# Altium footprint library mw.PcbLib: 252 footprints (part 16 of 16)
Each footprint in its own frame and in the unit in brackets; x right, y up, seen from the top. Pads: shape width x height; smd on the part's side, far side on the other; paste and mask are expansions set on the pad; w line width, h text height; cw(c..) or ccw(c..) is an arc to the next point about the centre after c.
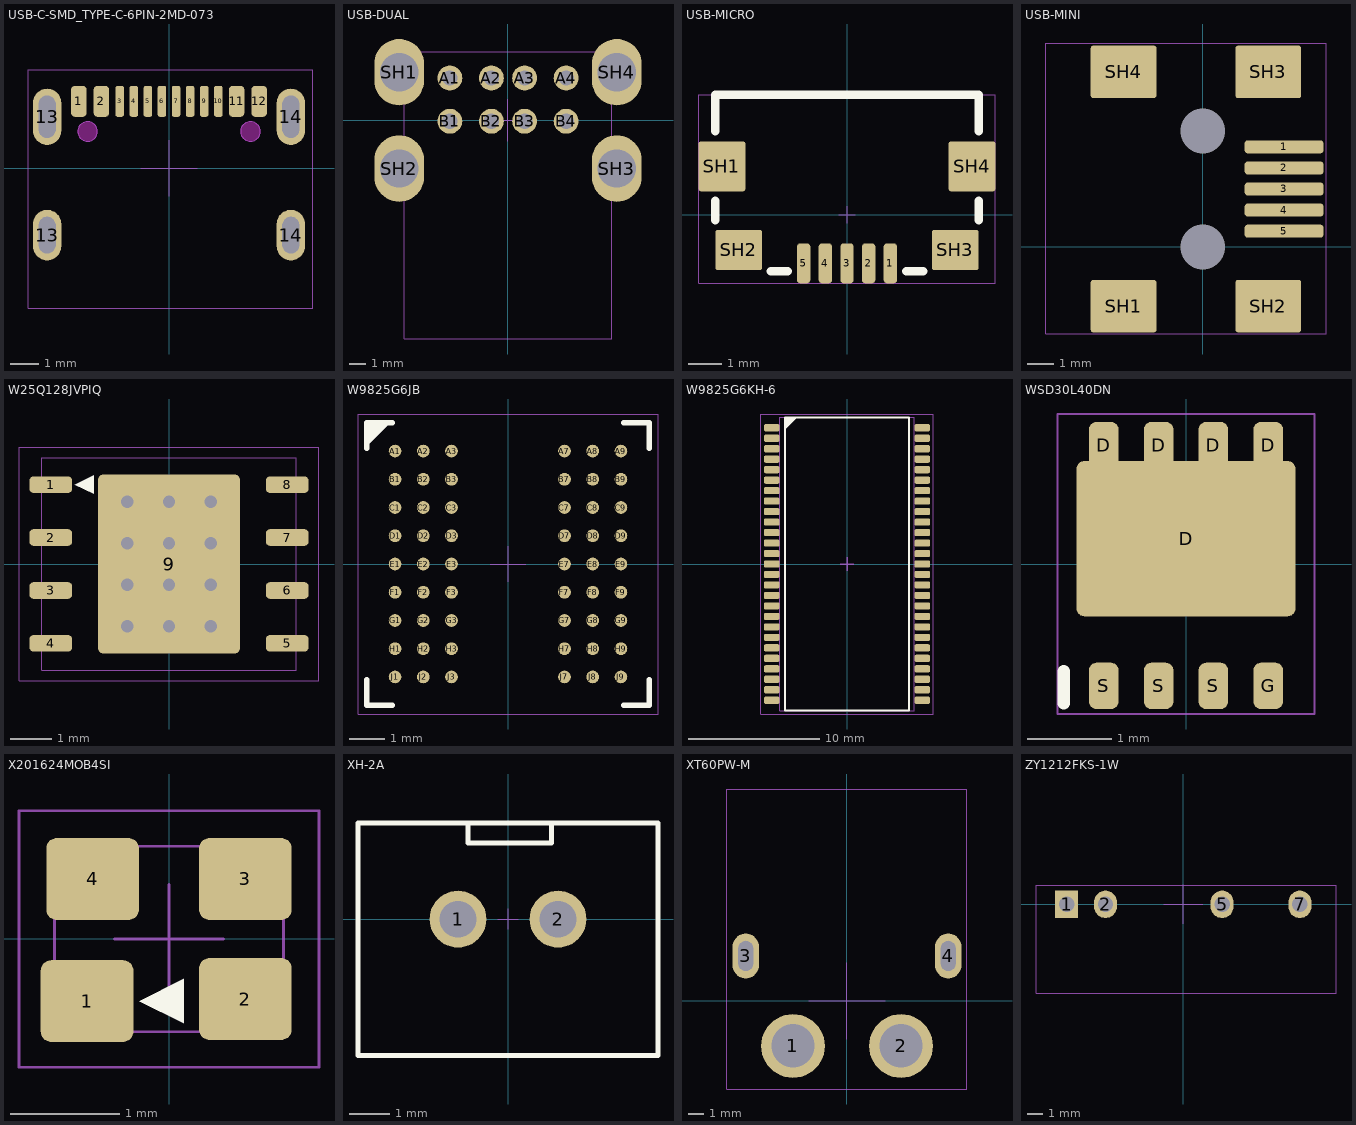
[diagram p15: the footprints below, top view; thin cyan lines are the x and y axes]

## USB-C-SMD_TYPE-C-6PIN-2MD-073 [mm]
pads (16):
  rrect50% 0.55x1.1 smd: 1(-3.2,2.375) 2(-2.4,2.375) 11(2.4,2.375) 12(3.2,2.375)
  rrect50% 0.3x1.1 smd: 3(-1.75,2.375) 4(-1.25,2.375) 5(-0.75,2.375) 6(-0.25,2.375) 7(0.25,2.375) 8(0.75,2.375) 9(1.25,2.375) 10(1.75,2.375)
  oval 1x2 hole 0.6 slot 1.5 at 90 deg: 13(-4.325,1.825) 14(4.325,1.825)
  oval 1x1.8 hole 0.6 slot 1.3 at 90 deg: 13(-4.325,-2.375) 14(4.325,-2.375)
Keep-Out Layer:
  board cut-out: -3.24,1.305 -3.24,1.235 -3.187,1.107 -3.088,1.008 -2.96,0.955 -2.89,0.955 -2.82,0.955 -2.692,1.008 -2.593,1.107 -2.54,1.235 -2.54,1.305 -2.54,1.375 -2.593,1.503 -2.692,1.602 -2.82,1.655 -2.89,1.655 -2.96,1.655 -3.088,1.602 -3.187,1.503 -3.24,1.375
  board cut-out: 2.54,1.305 2.54,1.235 2.593,1.107 2.692,1.008 2.821,0.955 2.89,0.955 2.96,0.955 3.088,1.008 3.187,1.107 3.24,1.235 3.24,1.305 3.24,1.375 3.187,1.503 3.088,1.602 2.96,1.655 2.89,1.655 2.821,1.655 2.692,1.602 2.593,1.503 2.54,1.375
Mechanical 1:
  circle w0.025: c2.89,1.305 r0.35
  circle w0.025: c-2.89,1.305 r0.35
Top Courtyard:
  lines w0.025: -1,0 1,0 ; 0,-1 0,1 ; -5,-4.975 4.572,-4.975 5.1,-4.975 5.1,3.5 -5,3.5 -5,-4.975

## USB-DUAL [mm]
pads (12):
  round 1.5 hole 0.92: A1(-3.5,2.55) A2(-1,2.55) A3(1,2.55) A4(3.5,2.55) B1(-3.5,-0.05) B2(-1,-0.05) B3(1,-0.05) B4(3.5,-0.05)
  oval 3x4 hole 2.3: SH1(-6.55,2.9) SH2(-6.55,-2.9) SH3(6.55,-2.9) SH4(6.55,2.9)
Top Courtyard:
  lines w0.025: -1.27,0 1.27,0 ; 0,-1.27 0,1.27 ; -6.25,-13.16 6.25,-13.16 6.25,4.14 -6.25,4.14 -6.25,-13.16

## USB-MICRO [mm]
pads (9):
  rrect50% 0.4x1.2 smd: 1(1.3,-1.455) 2(0.65,-1.455) 3(0,-1.455) 4(-0.65,-1.455) 5(-1.3,-1.455)
  rrect10% 1.4x1.5 smd: SH1(-3.75,1.455) SH4(3.75,1.455)
  rrect10% 1.4x1.2 smd: SH2(-3.25,-1.055) SH3(3.25,-1.055)
Top Overlay:
  lines w0.254: -3.952,-0.16 -3.952,0.422 ; -3.952,2.51 -3.952,3.604 3.952,3.604 3.952,2.51 ; -2.282,-1.7 -1.772,-1.7 ; 1.772,-1.7 2.282,-1.7 ; 3.952,-0.16 3.952,0.422
Top Courtyard:
  lines w0.025: -0.254,0 0.254,0 ; 0,-0.254 0,0.254 ; -4.45,-2.055 4.45,-2.055 4.45,3.604 -4.45,3.604 -4.45,-2.055

## USB-MINI [mm]
pads (11):
  rrect50% 3x0.5 smd: 1(3.093,3.8) 2(3.093,3) 3(3.093,2.2) 4(3.093,1.4) 5(3.093,0.6)
  rrect10% 2.5x2 smd: SH1(-3.007,-2.25) SH2(2.493,-2.25) SH3(2.493,6.65) SH4(-3.007,6.65)
  round 0 hole 1.7 unplated: ""(0,0) ""(0,4.4)
Top Courtyard:
  lines w0.025: -5.969,-3.302 -5.969,7.747 4.699,7.747 4.699,-3.302 -5.969,-3.302
3D body "usb-mini.STEP": height 4, standoff -0.85, extent -5.842,-2.75 3.358,7.15

## W25Q128JVPIQ [mm] "SON, 8-Leads, Body 5.00x6.00mm, Pitch 1.27mm, Thermal Pad 4.30x3.40mm, IPC Medium Density"
height 0.8
pads (9):
  rrect50% 1.025x0.4 smd: 1(-2.838,1.905) 2(-2.838,0.635) 3(-2.838,-0.635) 4(-2.838,-1.905) 5(2.838,-1.905) 6(2.838,-0.635) 7(2.838,0.635) 8(2.838,1.905)
  rrect7% 3.4x4.3 smd paste-1.7: 9(0,0)
via 1,-1.5 diameter 0.45 hole 0.3
via 0,-1.5 diameter 0.45 hole 0.3
via -1,-1.5 diameter 0.45 hole 0.3
via 1,-0.5 diameter 0.45 hole 0.3
via 0,-0.5 diameter 0.45 hole 0.3
via -1,-0.5 diameter 0.45 hole 0.3
via 1,0.5 diameter 0.45 hole 0.3
via 0,0.5 diameter 0.45 hole 0.3
via -1,0.5 diameter 0.45 hole 0.3
via 1,1.5 diameter 0.45 hole 0.3
via 0,1.5 diameter 0.45 hole 0.3
via -1,1.5 diameter 0.45 hole 0.3
Top Overlay:
  region: -1.81,1.682 -1.81,2.129 -2.257,1.906
Top Paste:
  rectangle: -1.13,-1.58 1.13,-0.285
  rectangle: -1.13,0.285 1.13,1.58
Top 3D Body (Mech13):
  lines w0.025: -3.05,-2.55 -3.05,2.55 3.05,2.55 3.05,-2.55 -3.05,-2.55
Top Courtyard:
  lines w0.025: -0.5,0 0.5,0 ; 0,-0.5 0,0.5 ; -3.6,-2.8 3.6,-2.8 3.6,2.8 -3.6,2.8 -3.6,-2.8
3D body "W25Q128JVPIQ.step": height 0.8, standoff 0, extent -3.051,-2.55 3.051,2.55

## W9825G6JB [mm] "BGA, 81-Leads, Body 8.00x8.00mmx1.20mm, Pitch 0.80mm"
height 1.2
pads (54):
  round 0.36 smd: A1(-3.2,3.2) A2(-2.4,3.2) A3(-1.6,3.2) A7(1.6,3.2) A8(2.4,3.2) A9(3.2,3.2) B1(-3.2,2.4) B2(-2.4,2.4) B3(-1.6,2.4) B7(1.6,2.4) B8(2.4,2.4) B9(3.2,2.4) C1(-3.2,1.6) C2(-2.4,1.6) C3(-1.6,1.6) C7(1.6,1.6) C8(2.4,1.6) C9(3.2,1.6) D1(-3.2,0.8) D2(-2.4,0.8) D3(-1.6,0.8) D7(1.6,0.8) D8(2.4,0.8) D9(3.2,0.8) E1(-3.2,0) E2(-2.4,0) E3(-1.6,0) E7(1.6,0) E8(2.4,0) E9(3.2,0) F1(-3.2,-0.8) F2(-2.4,-0.8) F3(-1.6,-0.8) F7(1.6,-0.8) F8(2.4,-0.8) F9(3.2,-0.8) G1(-3.2,-1.6) G2(-2.4,-1.6) G3(-1.6,-1.6) G7(1.6,-1.6) G8(2.4,-1.6) G9(3.2,-1.6) H1(-3.2,-2.4) H2(-2.4,-2.4) H3(-1.6,-2.4) H7(1.6,-2.4) H8(2.4,-2.4) H9(3.2,-2.4) J1(-3.2,-3.2) J2(-2.4,-3.2) J3(-1.6,-3.2) J7(1.6,-3.2) J8(2.4,-3.2) J9(3.2,-3.2)
Top Overlay:
  region: -3.339,4 -4,3.339 -4,4
  lines w0.152: -4,-3.277 -4,-4 -3.277,-4 ; -4,3.277 -4,4 -3.277,4 ; 3.277,-4 4,-4 4,-3.277 ; 3.277,4 4,4 4,3.277
Top Courtyard:
  lines w0.025: -0.5,0 0.5,0 ; 0,-0.5 0,0.5 ; -4.25,-4.25 -4.25,4.25 4.25,4.25 4.25,-4.25 -4.25,-4.25

## W9825G6KH-6 [mm] "TSOP, 54-Leads, Body 22.22x10.16mm, Pitch 0.80mm, IPC Medium Density"
height 1.2
pads (54):
  rrect50% 1.2x0.55 smd: 1(-5.75,10.4) 2(-5.75,9.6) 3(-5.75,8.8) 4(-5.75,8) 5(-5.75,7.2) 6(-5.75,6.4) 7(-5.75,5.6) 8(-5.75,4.8) 9(-5.75,4) 10(-5.75,3.2) 11(-5.75,2.4) 12(-5.75,1.6) 13(-5.75,0.8) 14(-5.75,0) 15(-5.75,-0.8) 16(-5.75,-1.6) 17(-5.75,-2.4) 18(-5.75,-3.2) 19(-5.75,-4) 20(-5.75,-4.8) 21(-5.75,-5.6) 22(-5.75,-6.4) 23(-5.75,-7.2) 24(-5.75,-8) 25(-5.75,-8.8) 26(-5.75,-9.6) 27(-5.75,-10.4) 28(5.75,-10.4) 29(5.75,-9.6) 30(5.75,-8.8) 31(5.75,-8) 32(5.75,-7.2) 33(5.75,-6.4) 34(5.75,-5.6) 35(5.75,-4.8) 36(5.75,-4) 37(5.75,-3.2) 38(5.75,-2.4) 39(5.75,-1.6) 40(5.75,-0.8) 41(5.75,0) 42(5.75,0.8) 43(5.75,1.6) 44(5.75,2.4) 45(5.75,3.2) 46(5.75,4) 47(5.75,4.8) 48(5.75,5.6) 49(5.75,6.4) 50(5.75,7.2) 51(5.75,8) 52(5.75,8.8) 53(5.75,9.6) 54(5.75,10.4)
Top Overlay:
  region: -4.75,10.266 -4.75,11.2 -3.816,11.2
  lines w0.152: -4.75,-11.2 4.75,-11.2 4.75,11.2 -4.75,11.2 -4.75,-11.2
Top 3D Body (Mech13):
  lines w0.025: -5.15,-11.2 5.15,-11.2 5.15,11.2 -5.15,11.2 -5.15,-11.2
Top Courtyard:
  lines w0.025: -6.6,-11.45 6.6,-11.45 6.6,11.45 -6.6,11.45 -6.6,-11.45
  lines w0.1: -0.5,0 0.5,0 ; 0,-0.5 0,0.5
3D body "W9825G6KH-6.step": height 1.2, standoff 0, extent -5.88,-11.2 5.88,11.2

## WSD30L40DN [mm]
pads (9):
  rrect50% 0.35x0.55 smd: D(-0.975,1.41) D(-0.325,1.41) D(0.325,1.41) D(0.975,1.41) G(0.975,-1.445) S(-0.975,-1.445) S(-0.325,-1.445) S(0.325,-1.445)
  rrect10% 2.6x1.84 smd: D(0,0.3)
Top Overlay:
  lines w0.15: -1.448,-1.651 -1.448,-1.27
Top Courtyard:
  lines w0.025: -0.254,0 0.254,0 ; 0,-0.254 0,0.254 ; -1.524,-1.778 -1.524,1.778 1.524,1.778 1.524,-1.778 -1.524,-1.778

## X201624MOB4SI [mm] "DFN, 4-Leads, Body 2.00x1.60mm, Pitch 1.40mm, IPC Medium Density"
height 0.55
pads (4):
  rrect25% 0.85x0.75 smd: 1(-0.751,-0.569) 2(0.7,-0.55) 3(0.7,0.55) 4(-0.7,0.55)
Top Overlay:
  region: 0.137,-0.774 0.137,-0.365 -0.272,-0.569
Top 3D Body (Mech13):
  lines w0.025: -1.05,-0.85 1.05,-0.85 1.05,0.85 -1.05,0.85 -1.05,-0.85
Top Courtyard:
  lines w0.025: -0.5,0 0.5,0 ; 0,-0.5 0,0.5 ; -1.375,-1.175 1.375,-1.175 1.375,1.175 -1.375,1.175 -1.375,-1.175
3D body "X201624MOB4SI.step": height 0.5, standoff 0, extent -1,-0.8 1,0.8

## XH-2A [mil] "XH2.54锟斤拷锟竭讹拷锟斤拷2P"
pads (2):
  round 56 hole 36: 1(-49.22,0) 2(49.22,0)
Top Overlay:
  lines w5: -39.22,93 -39.22,75 42.78,75 42.78,94 ; -147.65,-134.17 -147.65,94.49 147.63,94.49 147.63,-134.17 -147.65,-134.17
Top Courtyard:
  lines w1: -10,0 10,0 ; 0,-10 0,10 ; -147.31,-133.09 -147.31,95 147.31,95 147.31,-133.09 -147.31,-133.09
3D body "sh2.5-2pin.STEP": height 275.59, standoff -133.86, extent -145.67,-134.17 145.67,94.17

## XT60PW-M [mm]
pads (4):
  round 4.25 hole 2.9: 1(-3.6,-3) 2(3.6,-3)
  oval 1.75x3 hole 1 slot 2 at 90 deg: 3(-6.75,3) 4(6.75,3)
Top Courtyard:
  lines w0.025: -2.54,0 2.54,0 ; 0,-2.54 0,2.54 ; -8,-5.867 8,-5.867 8,14.133 -8,14.133 -8,-5.867
3D body "XT60PW-M.step": height 8.45, standoff -3, extent -7.95,-4.852 7.95,13.348

## ZY1212FKS-1W [mm]
height 10
pads (4):
  rect 1.5x1.8 hole 1: 1(-7.62,0)
  oval 1.5x1.8 hole 1: 2(-5.08,0) 5(2.54,0) 7(7.62,0)
Top Courtyard:
  lines w0.025: -1.27,0 1.27,0 ; 0,-1.27 0,1.27 ; -9.62,-5.8 9.98,-5.8 9.98,1.25 -9.62,1.25 -9.62,-5.8